# EAGLE library part SGTL5000XNLA3 (library thefly)
Check availability <https://pricing.snapeda.com/parts/SGTL5000XNLA3/NXP%20Semiconductors/view-part?ref=eda>
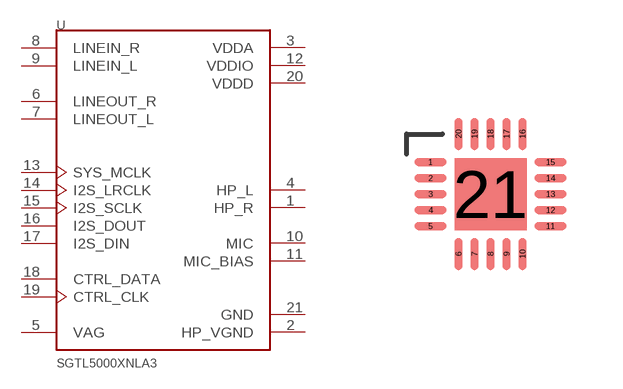
[diagram p1: symbol with the pads of QFN40P300X300X60-21N; footprint QFN40P300X300X60-21N]

Designator prefix U

## SGTL5000XNLA3 (AVAILABILITY: In Stock; CHECK_PRICES: https://www.snapeda.com/parts/SGTL5000XNLA3/NXP+Semiconductors/view-part/?ref=eda; DESCRIPTION: Stereo Audio Interface - I²C, Serial, SPI™ 20-QFN-EP (3x3); MF: NXP Semiconductors; MP: SGTL5000XNLA3; PACKAGE: QFN-20 Freescale Semiconductor; PRICE: None; PURCHASE-URL: https://www.snapeda.com/api/url_track_click_mouser/?unipart_id=4792388&manufacturer=NXP Semiconductors&part_name=SGTL5000XNLA3&search_term=sgtl5000; SNAPEDA_LINK: https://www.snapeda.com/parts/SGTL5000XNLA3/NXP+Semiconductors/view-part/?ref=snap)  [QFN40P300X300X60-21N]
1  HP_R  out
2  HP_VGND  pwr
3  VDDA  pwr
4  HP_L  out
5  VAG
6  LINEOUT_R  out
7  LINEOUT_L  out
8  LINEIN_R  in
9  LINEIN_L  in
10  MIC  in
11  MIC_BIAS
12  VDDIO  pwr
13  SYS_MCLK
14  I2S_LRCLK
15  I2S_SCLK
16  I2S_DOUT  out
17  I2S_DIN
18  CTRL_DATA
19  CTRL_CLK
20  VDDD  pwr
21  GND  pwr

## Footprint QFN40P300X300X60-21N (pad centres in mm)
smd 0.8 x 0.2: 1 -1.5,0.8; 2 -1.5,0.4; 3 -1.5,0; 4 -1.5,-0.4; 5 -1.5,-0.8; 11 1.5,-0.8; 12 1.5,-0.4; 13 1.5,0; 14 1.5,0.4; 15 1.5,0.8
smd 0.2 x 0.8: 6 -0.8,-1.5; 7 -0.4,-1.5; 8 0,-1.5; 9 0.4,-1.5; 10 0.8,-1.5; 16 0.8,1.5; 17 0.4,1.5; 18 0,1.5; 19 -0.4,1.5; 20 -0.8,1.5
smd 1.8 x 1.8: 21 0,0